# Altium schematic symbol library PocketLab_DMM_EVT0.SchLib: 42 symbols (part 1 of 3)
Pins are listed as number, name and electrical type; pins without a type are passive.

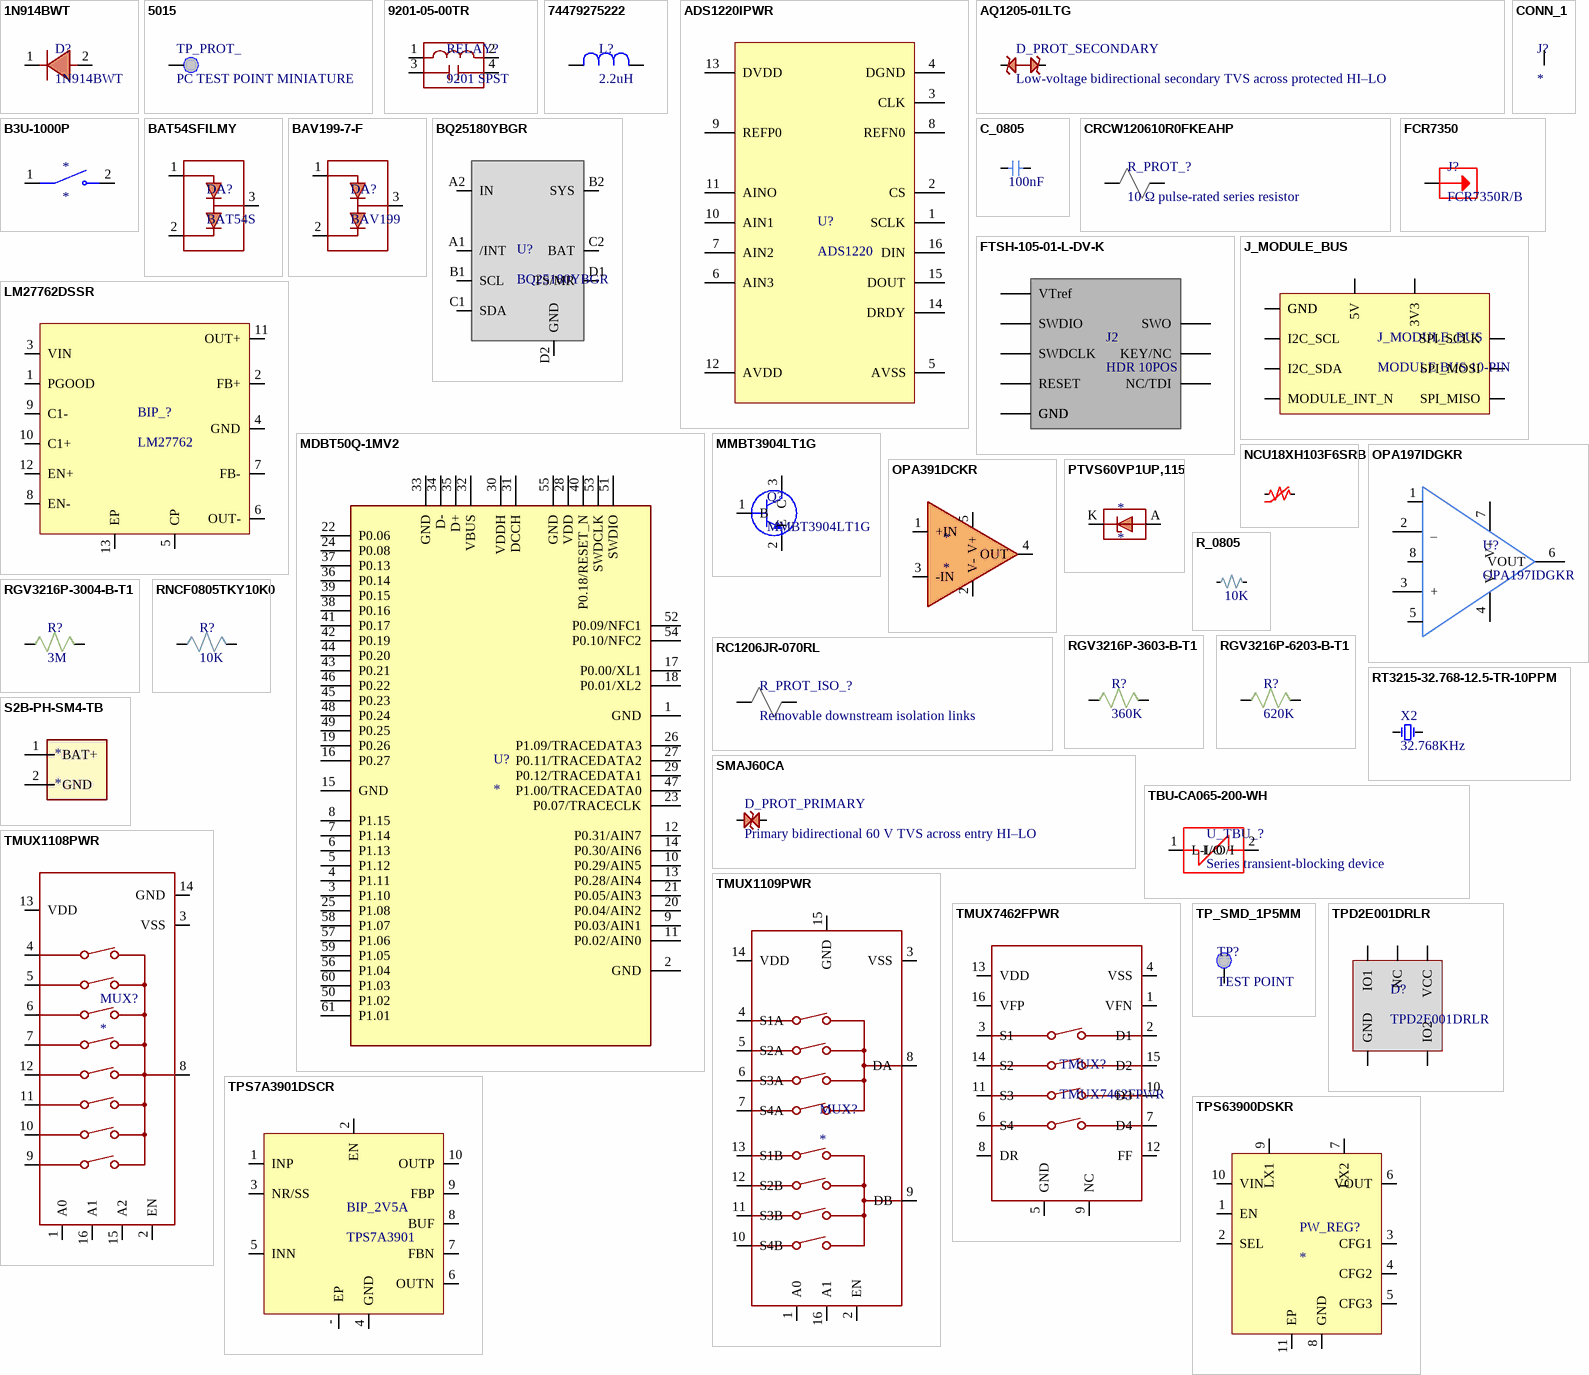
[diagram p0: symbols 1N914BWT to TPS63900DSKR]

## 1N914BWT
designator D?
DIODE STANDARD 75V 200MA SOD523F; Manufacturer: onsemi; Manufacturer Lifecycle Status: ACTIVE; Value: 4pF; Element Configuration: Single; Forward Current: 300mA; Forward Voltage: 720mV; Max Junction Temperature (Tj): 150°C; Max Output current: 150mA; Max Power Dissipation: 200mW; Max Reverse Leakage Current: 5µA; Number of Elements: 1; Recovery Time: 4ns; Reverse Voltage: 100V; Supplier: DigiKey; Supplier Part Number: 1N914BWTCT-ND; Manufacturer Part Number: 1N914BWT; RoHS: Compliant; Category: Rectifier Diodes; Stock: 1541183; Pricing: 1=0.17, 10=0.102, 50=0.0726, 100=0.0629, 500=0.04556 (USD); Average Rectified Current: 200mA; China RoHS: Compliant; Contact Plating: Tin; Country of Origin: Mainland China; Export Control Classification Number (ECCN) Code: EAR99; Height: 700µm; Harmonized Tariff Schedule (HTS) Code: 8541.10.00.70; Introduction Date: 2008-03-18; Lead Free: Lead Free; Lifecycle Status: Production; Max Operating Temperature: 150°C; Max Repetitive Reverse Voltage (Vrrm): 75V; Max Reverse Voltage (DC): 75V; Min Operating Temperature: -55°C; Mounting Technology: Surface Mount; Pins: 2; Number of Terminals: 2; Peak Reverse Current: 5µA; Power Dissipation: 200mW; Radiation Hardening: No; REACH SVHC: Yes; Reverse Recovery Time: 4ns; Reverse Standoff Voltage: 75V; Schedule B: 8541100070, 8541100070|8541100070|8541100070|8541100070|8541100070; Weight: 10mg; ComponentLink1URL: https://datasheet.octopart.com:443/1N914BWT-ON-Semiconductor-datasheet-137236191.pdf?src-supplier=JRH+Electronics; ComponentLink1Description: https://datasheet.octopart.com:443/1N914BWT-ON-Semiconductor-datasheet-137236191.pdf?src-supplier=JRH+Electronics; ComponentLink2URL: https://sigma.octopart.com:443/138897313/technical_drawing/ON-Semiconductor-1N914BWT.pdf?src-supplier=Upverter; ComponentLink2Description: https://sigma.octopart.com:443/138897313/technical_drawing/ON-Semiconductor-1N914BWT.pdf?src-supplier=Upverter; ComponentLink3URL: https://datasheet.octopart.com:443/1N914BWT-ON-Semiconductor-datasheet-8641207.pdf?src-supplier=IHS; ComponentLink3Description: https://datasheet.octopart.com:443/1N914BWT-ON-Semiconductor-datasheet-8641207.pdf?src-supplier=IHS; ComponentLink4URL: https://datasheet.octopart.com:443/1N914BWT-onsemi-datasheet-181265884.pdf?src-supplier=IHS; ComponentLink4Description: https://datasheet.octopart.com:443/1N914BWT-onsemi-datasheet-181265884.pdf?src-supplier=IHS; ComponentLink5URL: https://datasheet.octopart.com:443/1N914BWT-ON-Semiconductor-datasheet-85393215.pdf?src-supplier=onsemi; ComponentLink5Description: https://datasheet.octopart.com:443/1N914BWT-ON-Semiconductor-datasheet-85393215.pdf?src-supplier=onsemi; ComponentLink6URL: https://datasheet.octopart.com:443/1N914BWT-ON-Semiconductor-datasheet-86684494.pdf?src-supplier=onsemi; ComponentLink6Description: https://datasheet.octopart.com:443/1N914BWT-ON-Semiconductor-datasheet-86684494.pdf?src-supplier=onsemi; ComponentLink7URL: https://datasheet.octopart.com:443/1N914BWT-ON-Semiconductor-datasheet-86681974.pdf?src-supplier=element14+APAC; ComponentLink7Description: https://datasheet.octopart.com:443/1N914BWT-ON-Semiconductor-datasheet-86681974.pdf?src-supplier=element14+APAC; ComponentLink8URL: https://datasheet.octopart.com:443/1N914BWT-Fairchild-datasheet-597795.pdf?src-supplier=Future+Electronics; ComponentLink8Description: https://datasheet.octopart.com:443/1N914BWT-Fairchild-datasheet-597795.pdf?src-supplier=Future+Electronics; ComponentLink9URL: https://sigma.octopart.com:443/17343427/technical_drawing/Fairchild-Semiconductor-1N914BWT.pdf?src-supplier=Fairchild+Semiconductor; ComponentLink9Description: https://sigma.octopart.com:443/17343427/technical_drawing/Fairchild-Semiconductor-1N914BWT.pdf?src-supplier=Fairchild+Semiconductor; ComponentLink10URL: https://datasheet.octopart.com:443/1N914BWT-Fairchild-Semiconductor-datasheet-67878665.pdf?src-supplier=Farnell; ComponentLink10Description: https://datasheet.octopart.com:443/1N914BWT-Fairchild-Semiconductor-datasheet-67878665.pdf?src-supplier=Farnell; ComponentLink11URL: https://datasheet.octopart.com:443/1N914BWT-Fairchild-Semiconductor-datasheet-68649996.pdf?src-supplier=Farnell; ComponentLink11Description: https://datasheet.octopart.com:443/1N914BWT-Fairchild-Semiconductor-datasheet-68649996.pdf?src-supplier=Farnell; ComponentLink12URL: https://datasheet.octopart.com:443/1N914BWT-Fairchild-Semiconductor-datasheet-78857206.pdf?src-supplier=Farnell; ComponentLink12Description: https://datasheet.octopart.com:443/1N914BWT-Fairchild-Semiconductor-datasheet-78857206.pdf?src-supplier=Farnell; ComponentLink13URL: https://datasheet.octopart.com:443/1N914BWT-Fairchild-Semiconductor-datasheet-67909706.pdf?src-supplier=Newark; ComponentLink13Description: https://datasheet.octopart.com:443/1N914BWT-Fairchild-Semiconductor-datasheet-67909706.pdf?src-supplier=Newark; ComponentLink14URL: https://datasheet.octopart.com:443/1N914BWT-Fairchild-Semiconductor-datasheet-68364971.pdf?src-supplier=Newark; ComponentLink14Description: https://datasheet.octopart.com:443/1N914BWT-Fairchild-Semiconductor-datasheet-68364971.pdf?src-supplier=Newark; ComponentLink15URL: https://datasheet.octopart.com:443/1N914BWT-Fairchild-Semiconductor-datasheet-71421042.pdf?src-supplier=Newark; ComponentLink15Description: https://datasheet.octopart.com:443/1N914BWT-Fairchild-Semiconductor-datasheet-71421042.pdf?src-supplier=Newark; ComponentLink16URL: http://sigma.octopart.com:80/150599636/rohs_statement/ON-Semiconductor-1N914BWT.pdf?src-supplier=Compliance+Statements; ComponentLink16Description: http://sigma.octopart.com:80/150599636/rohs_statement/ON-Semiconductor-1N914BWT.pdf?src-supplier=Compliance+Statements; ComponentLink17URL: http://sigma.octopart.com:80/17343722/reach_statement/Fairchild-Semiconductor-1N914BWT.pdf?src-supplier=Compliance+Statements; ComponentLink17Description: http://sigma.octopart.com:80/17343722/reach_statement/Fairchild-Semiconductor-1N914BWT.pdf?src-supplier=Compliance+Statements; ComponentLink18URL: http://sigma.octopart.com:80/17343723/materials_sheet/Fairchild-Semiconductor-1N914BWT.pdf?src-supplier=Compliance+Statements; ComponentLink18Description: http://sigma.octopart.com:80/17343723/materials_sheet/Fairchild-Semiconductor-1N914BWT.pdf?src-supplier=Compliance+Statements; ComponentLink19URL: http://sigma.octopart.com:80/33033631/reach_statement/Fairchild-Semiconductor-1N914BWT.pdf?src-supplier=Compliance+Statements; ComponentLink19Description: http://sigma.octopart.com:80/33033631/reach_statement/Fairchild-Semiconductor-1N914BWT.pdf?src-supplier=Compliance+Statements; ComponentLink20URL: http://sigma.octopart.com:80/33033633/materials_sheet/Fairchild-Semiconductor-1N914BWT.pdf?src-supplier=Compliance+Statements; ComponentLink20Description: http://sigma.octopart.com:80/33033633/materials_sheet/Fairchild-Semiconductor-1N914BWT.pdf?src-supplier=Compliance+Statements; ComponentLink21URL: http://sigma.octopart.com:80/reach_statement/ON-Semiconductor-company-79.pdf?src-supplier=Compliance+Statements; ComponentLink21Description: http://sigma.octopart.com:80/reach_statement/ON-Semiconductor-company-79.pdf?src-supplier=Compliance+Statements; ComponentLink22URL: http://sigma.octopart.com:80/rohs_statement/Fairchild-Semiconductor-company-11.pdf?src-supplier=Compliance+Statements; ComponentLink22Description: http://sigma.octopart.com:80/rohs_statement/Fairchild-Semiconductor-company-11.pdf?src-supplier=Compliance+Statements; ComponentLink23URL: http://sigma.octopart.com:80/rohs_statement/Fairchild-Semiconductor-company-10.pdf?src-supplier=Compliance+Statements; ComponentLink23Description: http://sigma.octopart.com:80/rohs_statement/Fairchild-Semiconductor-company-10.pdf?src-supplier=Compliance+Statements; ComponentLink24URL: http://sigma.octopart.com:80/reach_statement/Fairchild-Semiconductor-company-9.pdf?src-supplier=Compliance+Statements; ComponentLink24Description: http://sigma.octopart.com:80/reach_statement/Fairchild-Semiconductor-company-9.pdf?src-supplier=Compliance+Statements; ComponentLink25URL: https://octopart.com:443/opatz8j6/c1?t=AH9zcMxkeAdW6q2Eq6b7IE3o8p7oJyfCCWP2LD7p9dkg8_1XgT_uIYUIfv7lhcHO3Lm2dWJ0vyWcCXTmI-m6i_e3bz1ygKnSbTknupXSFzBNj_HpxZskJCgN2zBylGov1HFklhlqrpHlO6K5AZ62MDKnKfmeey-sKx5zLLXPz3vdpqjCapaf97_w5ymRJ4vykqn37E9iqiVHqZfTnoawsGL7kQ2_tC5XJG82m9dj8CjUa7IyLd46aJZw47PNoUwIy-tktB34mxPYkgoIYMPq_y-2_Zl7oOQxNhckIE8NgxTfVSFSWYFJhemMnrsZ4FmlJAaE9JBv7LsFpjF61P3RKffqM8U7tIBEs0IC&src-supplier=Compliance+Statements; ComponentLink25Description: https://octopart.com:443/opatz8j6/c1?t=AH9zcMxkeAdW6q2Eq6b7IE3o8p7oJyfCCWP2LD7p9dkg8_1XgT_uIYUIfv7lhcHO3Lm2dWJ0vyWcCXTmI-m6i_e3bz1ygKnSbTknupXSFzBNj_HpxZskJCgN2zBylGov1HFklhlqrpHlO6K5AZ62MDKnKfmeey-sKx5zLLXPz3vdpqjCapaf97_w5ymRJ4vykqn37E9iqiVHqZfTnoawsGL7kQ2_tC5XJG82m9dj8CjUa7IyLd46aJZw47PNoUwIy-tktB34mxPYkgoIYMPq_y-2_Zl7oOQxNhckIE8NgxTfVSFSWYFJhemMnrsZ4FmlJAaE9JBv7LsFpjF61P3RKffqM8U7tIBEs0IC&src-supplier=Compliance+Statements; ComponentLink26URL: https://octopart.com:443/opatz8j6/c1?t=xkFbza4jrI2CRbegTQyc3OoFkt0wJLseTZvNZoS9ZK7og4IYeJkRm8Wtlicq30gKrCmXKYAvwhfUWUd8QrgiWtGr-1lPch9YM6_eRKvxcMBeJPMVF6fuXrX8qVzrjdJE_ba4nBK8Av8ejJiUOIqoCK4JwxbrI670KPmrS7lZhK3d4M9ClcgV1EdcA89oUfKfxSXdDQ7ptMPVQyO9dYqcVLlwZjgXP6pJFSDaJyXdYctBiNO3pJoYg6YNiGqR74o654sFLuxF_heBqsxkg6UEULjNDBDBmm8bGtxjuaEt4DFGZZVVzAgQnbURpSvQrJSnNWgco6nydRWV0EfJMGefeNg22mY4HSjyeBXs9g&src-supplier=Compliance+Statements; ComponentLink26Description: https://octopart.com:443/opatz8j6/c1?t=xkFbza4jrI2CRbegTQyc3OoFkt0wJLseTZvNZoS9ZK7og4IYeJkRm8Wtlicq30gKrCmXKYAvwhfUWUd8QrgiWtGr-1lPch9YM6_eRKvxcMBeJPMVF6fuXrX8qVzrjdJE_ba4nBK8Av8ejJiUOIqoCK4JwxbrI670KPmrS7lZhK3d4M9ClcgV1EdcA89oUfKfxSXdDQ7ptMPVQyO9dYqcVLlwZjgXP6pJFSDaJyXdYctBiNO3pJoYg6YNiGqR74o654sFLuxF_heBqsxkg6UEULjNDBDBmm8bGtxjuaEt4DFGZZVVzAgQnbURpSvQrJSnNWgco6nydRWV0EfJMGefeNg22mY4HSjyeBXs9g&src-supplier=Compliance+Statements
footprint 1N914BWT
pins: 1 cathode, 2 anode

## 5015
designator TP_PROT_, comment PC TEST POINT MINIATURE
2.67x1.02mm Miniature Phosphor Bronze Silver Plating SMT PC Test Point; Manufacturer: Keystone; Manufacturer Part Number: 5015; Number of Contacts: 1; Supplier: DigiKey; Supplier Part Number: 36-5015DKR-ND; RoHS: Compliant; Category: Test Points; Stock: 1508551; Pricing: 1=0.49, 10=0.37, 25=0.3316, 100=0.2809, 500=0.23324 (USD); Color: White; Contact Material: Silver; Contact Plating: Silver, Tin; Country of Origin: Mainland China; Depth: 1.01mm; Export Control Classification Number (ECCN) Code: EAR99; Height: 1.65mm; Introduction Date: 1999-06-01; Lead Free: Lead Free; Length: 2.66mm; Lifecycle Status: Production; Material: Bronze, Silver; Mounting Technology: Surface Mount; Number of Ports: 1; Orientation: Straight; Packaging: Cut Tape; REACH SVHC: Yes; Termination: Solder; Thickness: 254µm; ComponentLink1URL: https://datasheet.octopart.com:443/5015-Keystone-datasheet-138899164.pdf?src-supplier=IHS; ComponentLink1Description: https://datasheet.octopart.com:443/5015-Keystone-datasheet-138899164.pdf?src-supplier=IHS; ComponentLink2URL: https://datasheet.octopart.com:443/5015-Keystone-datasheet-15716177.pdf?src-supplier=Farnell; ComponentLink2Description: https://datasheet.octopart.com:443/5015-Keystone-datasheet-15716177.pdf?src-supplier=Farnell; ComponentLink3URL: https://datasheet.octopart.com:443/5015-Keystone-datasheet-23674.pdf?src-supplier=element14+APAC; ComponentLink3Description: https://datasheet.octopart.com:443/5015-Keystone-datasheet-23674.pdf?src-supplier=element14+APAC; ComponentLink4URL: https://datasheet.octopart.com:443/5015-Keystone-datasheet-14433324.pdf?src-supplier=SOS+electronic; ComponentLink4Description: https://datasheet.octopart.com:443/5015-Keystone-datasheet-14433324.pdf?src-supplier=SOS+electronic; ComponentLink5URL: https://datasheet.octopart.com:443/5015-Keystone-datasheet-10928035.pdf?src-supplier=RS+(Formerly+Allied+Electronics); ComponentLink5Description: https://datasheet.octopart.com:443/5015-Keystone-datasheet-10928035.pdf?src-supplier=RS+(Formerly+Allied+Electronics); ComponentLink6URL: https://datasheet.octopart.com:443/5015-Keystone-datasheet-110727223.pdf?src-supplier=RS+(Formerly+Allied+Electronics); ComponentLink6Description: https://datasheet.octopart.com:443/5015-Keystone-datasheet-110727223.pdf?src-supplier=RS+(Formerly+Allied+Electronics); ComponentLink7URL: https://datasheet.octopart.com:443/5015-Keystone-datasheet-43521.pdf?src-supplier=RS+(Formerly+Allied+Electronics); ComponentLink7Description: https://datasheet.octopart.com:443/5015-Keystone-datasheet-43521.pdf?src-supplier=RS+(Formerly+Allied+Electronics); ComponentLink8URL: https://datasheet.octopart.com:443/5015-Keystone-datasheet-9590016.pdf?src-supplier=Future+Electronics; ComponentLink8Description: https://datasheet.octopart.com:443/5015-Keystone-datasheet-9590016.pdf?src-supplier=Future+Electronics; ComponentLink9URL: https://datasheet.octopart.com:443/5015-Keystone-datasheet-110727227.pdf?src-supplier=Future+Electronics; ComponentLink9Description: https://datasheet.octopart.com:443/5015-Keystone-datasheet-110727227.pdf?src-supplier=Future+Electronics; ComponentLink10URL: https://datasheet.octopart.com:443/5015-Keystone-datasheet-549598.pdf?src-supplier=Future+Electronics; ComponentLink10Description: https://datasheet.octopart.com:443/5015-Keystone-datasheet-549598.pdf?src-supplier=Future+Electronics; ComponentLink11URL: https://datasheet.octopart.com:443/5015-Keystone-datasheet-154360695.pdf?src-supplier=Jameco+(USA); ComponentLink11Description: https://datasheet.octopart.com:443/5015-Keystone-datasheet-154360695.pdf?src-supplier=Jameco+(USA); ComponentLink12URL: https://datasheet.octopart.com:443/5015-Keystone-datasheet-10518101.pdf?src-supplier=Jameco+(USA); ComponentLink12Description: https://datasheet.octopart.com:443/5015-Keystone-datasheet-10518101.pdf?src-supplier=Jameco+(USA); ComponentLink13URL: https://datasheet.octopart.com:443/5015-Keystone-datasheet-120100765.pdf?src-supplier=Megastar; ComponentLink13Description: https://datasheet.octopart.com:443/5015-Keystone-datasheet-120100765.pdf?src-supplier=Megastar
pins: 1

## 9201-05-00TR
designator RELAY?, comment 9201 SPST
RELAY REED SPST 500MA 5V; Manufacturer: Coto; Manufacturer Part Number: 9201-05-00TR; Coil Current: 20mA; Coil Resistance: 250Ω; Coil Type: Non-Latching; Operate Time: 400µs; Release Time: 100µs; Switching Voltage: 200V; Supplier: DigiKey; Supplier Part Number: 306-1389-1-ND; RoHS: Compliant; Category: Signal Relays; Stock: 475; Pricing: 1=9.85, 10=8.777, 25=8.3816, 50=8.094, 100=7.8162, 250=7.46328, 500=7.20674 (USD); Case/Package: SMD/SMT; Coil Voltage (DC): 5V; Contact Current Rating: 500mA; Max Operating Temperature: 85°C; Min Operating Temperature: -20°C; Mounting Technology: Surface Mount; Packaging: Tape & Reel (TR); Relay Type: Reed; Switching Current: 500mA; Termination: Gull Wing; Throw Configuration: SPST; ComponentLink1URL: https://datasheet.octopart.com:443/9201-05-00TR-Coto-Technology-datasheet-126537.pdf?src-supplier=Newark; ComponentLink1Description: https://datasheet.octopart.com:443/9201-05-00TR-Coto-Technology-datasheet-126537.pdf?src-supplier=Newark
footprint 9201-05-00TR (RELAY REED SPST 500MA 5V)
pins: 1, 2, 3, 4

## 74479275222
designator L?, comment 2.2uH
FIXED IND 2.2UH 2A 190 MOHM SMD; Manufacturer: Wurth Elektronik; Manufacturer Part Number: 74479275222; Manufacturer Lifecycle Status: ACTIVE; Current Rating: 1A; DC Resistance (DCR): 166mΩ; Value: 2.2µH; Inductance Tolerance: 20%; RMS Current (Irms): 1.3A; Saturation Current: 1.2A; Self Resonant Frequency: 40MHz; ESR: 176mΩ; Shielding: Shielded; Test Frequency: 1MHz; YEOL: 1 = Estimated lifetime > 10 years; Supplier: DigiKey; Supplier Part Number: 732-9708-1-ND; RoHS: Compliant; Category: Fixed Inductors; Stock: 6231; Pricing: 1=1.27, 50=1.056, 100=0.915, 1000=0.832 (USD); Ambient Temperature Range High: 85°C; Ambient Temperature Range Low: -40°C; Case/Package: 0805; Case Code (Imperial): 0805; Case Code (Metric): 2012; Height: 1mm; Height - Seated (Max): 1.4478mm; Length: 2mm; Lifecycle Status: Production; Max Operating Temperature: 125°C; Min Operating Temperature: -40°C; Mounting Technology: Surface Mount; Pins: 2; REACH SVHC: Unknown; Tolerance: 20%; Width: 1.25mm; ComponentLink1URL: https://datasheet.octopart.com:443/74479275222-W%C3%BCrth-Elektronik-datasheet-155263601.pdf?src-supplier=Wurth+Elektronik; ComponentLink1Description: https://datasheet.octopart.com:443/74479275222-W%C3%BCrth-Elektronik-datasheet-155263601.pdf?src-supplier=Wurth+Elektronik; ComponentLink2URL: https://datasheet.octopart.com:443/74479275222-Wurth-Elektronik-datasheet-181536646.pdf?src-supplier=Newark; ComponentLink2Description: https://datasheet.octopart.com:443/74479275222-Wurth-Elektronik-datasheet-181536646.pdf?src-supplier=Newark; ComponentLink3URL: https://datasheet.octopart.com:443/74479275222-W%C3%BCrth-Elektronik-datasheet-62333429.pdf?src-supplier=element14+APAC; ComponentLink3Description: https://datasheet.octopart.com:443/74479275222-W%C3%BCrth-Elektronik-datasheet-62333429.pdf?src-supplier=element14+APAC
footprint WE_PMCI_201210
pins: 1, 2

## ADS1220IPWR
designator U?, comment ADS1220
IC ADC 24BIT 16-TSSOP; Manufacturer: Texas Instruments; Manufacturer Part Number: ADS1220IPWR; Manufacturer Lifecycle Status: ACTIVE; Interface: SPI; Max Power Dissipation: 1.4mW; Max Supply Voltage: 5.5V; Min Supply Voltage: 2.3V; Number of A/D Converters: 1; Number of Analog Inputs: 4; Number of Bits: 24; Operating Supply Voltage: 3.3V; Polarity: Bipolar, Unipolar; Power Dissipation: 2.1mW; Resolution: 3B; Sampling Rate: 2ksps; Supply Type: Analog, Digital, Dual; Supplier: DigiKey; Supplier Part Number: 296-39851-1-ND; RoHS: Compliant; Category: Analog to Digital Converters (ADCs); Stock: 4099; Pricing: 1=9.26, 10=7.201, 25=6.6852, 100=6.1189, 250=6.0022 (USD); Case/Package: TSSOP; Contact Plating: Gold; Height: 1.2mm; Lead Free: Lead Free; Length: 5mm; Lifecycle Status: Production; Max Operating Temperature: 125°C; Min Operating Temperature: -40°C; Mounting Technology: Surface Mount; Number of Channels: 1; Number of Converters: 1; Number of Elements: 1; Number of Inputs: 4; Pins: 16; Radiation Hardening: No; Schedule B: 8542390000; Thickness: 1mm; Width: 4.4mm; ComponentLink1URL: https://sigma.octopart.com:443/189718192/technical_drawing/Texas-Instruments-ADS1220IPWR.pdf?src-supplier=Texas+Instruments; ComponentLink1Description: https://sigma.octopart.com:443/189718192/technical_drawing/Texas-Instruments-ADS1220IPWR.pdf?src-supplier=Texas+Instruments; ComponentLink2URL: https://octopart.com:443/opatz8j6/c1?t=BlS52qY4T5w8A7uK_HjLnxNLo9uk59_RYYMo9dLg0oO2cMi-18kly1ZKdJe2qPDbDx0L3HGY3S0lPPROM-3fqYypc313GSW7Fpej1V_dswjApvxmFTIjwfDPB1ymsghsFF1peKDlQOxzEpi3-yutT465CQ4oB2kBM5WiUtcuO2mNwVfA-IWeTnfaQkyq_eP44orWu8X7V80Vir55GCaJJNnMK-Ri4IeRAVNqOHGPv58lWeY5n0YLEge8tXITw4M_cEEmDQjwStTzdakIywHbSoPuvyHyNGZa9yCPf7we15vfNr4UaaVf2RPbk6oPXb3t4UGaAVG0yF_k74fBuIdALnp98NtoYrGWv25hANVM8CHAoYO8J4TnYaXtD7mx8qsTT-nMoCs&src-supplier=Texas+Instruments; ComponentLink2Description: https://octopart.com:443/opatz8j6/c1?t=BlS52qY4T5w8A7uK_HjLnxNLo9uk59_RYYMo9dLg0oO2cMi-18kly1ZKdJe2qPDbDx0L3HGY3S0lPPROM-3fqYypc313GSW7Fpej1V_dswjApvxmFTIjwfDPB1ymsghsFF1peKDlQOxzEpi3-yutT465CQ4oB2kBM5WiUtcuO2mNwVfA-IWeTnfaQkyq_eP44orWu8X7V80Vir55GCaJJNnMK-Ri4IeRAVNqOHGPv58lWeY5n0YLEge8tXITw4M_cEEmDQjwStTzdakIywHbSoPuvyHyNGZa9yCPf7we15vfNr4UaaVf2RPbk6oPXb3t4UGaAVG0yF_k74fBuIdALnp98NtoYrGWv25hANVM8CHAoYO8J4TnYaXtD7mx8qsTT-nMoCs&src-supplier=Texas+Instruments; ComponentLink3URL: https://sigma.octopart.com:443/116621398/technical_drawing/Texas-Instruments-ADS1220IPWR.pdf?src-supplier=Texas+Instruments; ComponentLink3Description: https://sigma.octopart.com:443/116621398/technical_drawing/Texas-Instruments-ADS1220IPWR.pdf?src-supplier=Texas+Instruments; ComponentLink4URL: https://datasheet.octopart.com:443/ADS1220IPWR-Texas-Instruments-datasheet-37484719.pdf?src-supplier=Texas+Instruments; ComponentLink4Description: https://datasheet.octopart.com:443/ADS1220IPWR-Texas-Instruments-datasheet-37484719.pdf?src-supplier=Texas+Instruments; ComponentLink5URL: https://datasheet.octopart.com:443/ADS1220IPWR-Texas-Instruments-datasheet-16941236.pdf?src-supplier=Texas+Instruments; ComponentLink5Description: https://datasheet.octopart.com:443/ADS1220IPWR-Texas-Instruments-datasheet-16941236.pdf?src-supplier=Texas+Instruments; ComponentLink6URL: https://datasheet.octopart.com:443/ADS1220IPWR-Texas-Instruments-datasheet-15761565.pdf?src-supplier=Texas+Instruments; ComponentLink6Description: https://datasheet.octopart.com:443/ADS1220IPWR-Texas-Instruments-datasheet-15761565.pdf?src-supplier=Texas+Instruments; ComponentLink7URL: https://sigma.octopart.com:443/49249815/technical_drawing/Texas-Instruments-ADS1220IPWR.pdf?src-supplier=Texas+Instruments; ComponentLink7Description: https://sigma.octopart.com:443/49249815/technical_drawing/Texas-Instruments-ADS1220IPWR.pdf?src-supplier=Texas+Instruments; ComponentLink8URL: https://datasheet.octopart.com:443/ADS1220IPWR-Texas-Instruments-datasheet-159675426.pdf?src-supplier=SHENGYU+ELECTRONICS; ComponentLink8Description: https://datasheet.octopart.com:443/ADS1220IPWR-Texas-Instruments-datasheet-159675426.pdf?src-supplier=SHENGYU+ELECTRONICS; ComponentLink9URL: https://datasheet.octopart.com:443/ADS1220IPWR-Texas-Instruments-datasheet-165986363.pdf?src-supplier=LCSC; ComponentLink9Description: https://datasheet.octopart.com:443/ADS1220IPWR-Texas-Instruments-datasheet-165986363.pdf?src-supplier=LCSC; ComponentLink10URL: http://sigma.octopart.com:80/reach_statement/Texas-Instruments-company-64.pdf?src-supplier=Compliance+Statements; ComponentLink10Description: http://sigma.octopart.com:80/reach_statement/Texas-Instruments-company-64.pdf?src-supplier=Compliance+Statements; ComponentLink11URL: http://sigma.octopart.com:80/conflict_mineral_statement/Texas-Instruments-company-63.pdf?src-supplier=Compliance+Statements; ComponentLink11Description: http://sigma.octopart.com:80/conflict_mineral_statement/Texas-Instruments-company-63.pdf?src-supplier=Compliance+Statements
footprint ADS1220IPWR
pins: 1 SCLK, 2 CS, 3 CLK, 4 DGND, 5 AVSS, 6 AIN3, 7 AIN2, 8 REFN0, 9 REFP0, 10 AIN1, 11 AINO, 12 AVDD, 13 DVDD, 14 DRDY, 15 DOUT, 16 DIN

## AQ1205-01LTG
designator D_PROT_SECONDARY, comment Low-voltage bidirectional secondary TVS across protected HI–LO
5V 7A 30kV SOD523 Bi-dir TVS; Manufacturer: Littelfuse; Manufacturer Part Number: AQ1205-01LTG; Number of Channels: 1; Supplier: DigiKey; Supplier Part Number: 18-AQ1205-01LTGCT-ND; Category: TVS Diodes; Stock: 2373; Pricing: 1=0.71, 10=0.439, 50=0.3202, 100=0.2815, 500=0.21336 (USD); Export Control Classification Number (ECCN) Code: EAR99; Harmonized Tariff Schedule (HTS) Code: 8541.10.00.50; Introduction Date: 2023-03-20; Lifecycle Status: Production; ComponentLink1URL: https://datasheet.octopart.com:443/AQ1205-01LTG-Littelfuse-datasheet-184556506.pdf?src-supplier=Farnell; ComponentLink1Description: https://datasheet.octopart.com:443/AQ1205-01LTG-Littelfuse-datasheet-184556506.pdf?src-supplier=Farnell
pins: 1, 2

## B3U-1000P
designator *
Switch Tactile N.O. SPST Round Button Solder Tab 12VDC 200000Cycles 1.5N SMD Emboss T/R; Manufacturer: Omron; Manufacturer Part Number: B3U-1000P; Manufacturer Package Identifier: B3U-1000P(M); Actuator Length: 400µm; Contact Current Rating: 50mA; Contact Resistance: 100mΩ; Electrical Life: 200kcycles; Illumination Type: Illuminated, Non-Illuminated; Max Voltage Rating (DC): 12V; Number of Positions: 1; Operating Force: 1.99N; Ratings: Dust Proof, IP40; Sealable: DUST PROOF; Switch Function: Off-Mom; Switch Travel: 150µm; Supplier: Arrow Electronics; Supplier Part Number: B3U-1000P; RoHS: Compliant; Category: Tactile Switches; Stock: 392000; Pricing: 3500=0.5448, 7000=0.5014 (USD); Ambient Temperature Range High: 70°C; Color: Silver; Contact Material: Silver; Contact Plating: Silver; Current Rating: 50mA; Depth: 2.5mm; Height: 1.2mm; Insulation Resistance: 100MΩ; Lead Free: Lead Free; Length: 3mm; Life (Cycles): 200kcycles; Lifecycle Status: Production; Max Current Rating: 50mA; Max Operating Temperature: 70°C; Mechanical Life: 200kcycles; Min Operating Temperature: -25°C; Mounting Technology: Surface Mount; Pins: 2; Packaging: Tape and Reel; REACH SVHC: Yes; Termination: Solder; Throw Configuration: SPST; Voltage Rating (DC): 12V; Weight: 21.99923mg; Width: 2.5mm; ComponentLink1URL: https://datasheet.octopart.com:443/B3U-1000P-Omron-datasheet-62106914.pdf?src-supplier=IHS; ComponentLink1Description: https://datasheet.octopart.com:443/B3U-1000P-Omron-datasheet-62106914.pdf?src-supplier=IHS; ComponentLink2URL: https://datasheet.octopart.com:443/B3U-1000P-Omron-datasheet-10910421.pdf?src-supplier=RS+(Formerly+Allied+Electronics); ComponentLink2Description: https://datasheet.octopart.com:443/B3U-1000P-Omron-datasheet-10910421.pdf?src-supplier=RS+(Formerly+Allied+Electronics); ComponentLink3URL: https://datasheet.octopart.com:443/B3U-1000P-Omron-datasheet-5458533.pdf?src-supplier=Upverter; ComponentLink3Description: https://datasheet.octopart.com:443/B3U-1000P-Omron-datasheet-5458533.pdf?src-supplier=Upverter; ComponentLink4URL: https://datasheet.octopart.com:443/B3U-1000P-Omron-datasheet-11968313.pdf?src-supplier=SOS+electronic; ComponentLink4Description: https://datasheet.octopart.com:443/B3U-1000P-Omron-datasheet-11968313.pdf?src-supplier=SOS+electronic; ComponentLink5URL: https://datasheet.octopart.com:443/B3U-1000P-Omron-datasheet-110759174.pdf?src-supplier=Newark; ComponentLink5Description: https://datasheet.octopart.com:443/B3U-1000P-Omron-datasheet-110759174.pdf?src-supplier=Newark; ComponentLink6URL: https://datasheet.octopart.com:443/B3U-1000P-Omron-datasheet-506776.pdf?src-supplier=Newark; ComponentLink6Description: https://datasheet.octopart.com:443/B3U-1000P-Omron-datasheet-506776.pdf?src-supplier=Newark; ComponentLink7URL: https://datasheet.octopart.com:443/B3U-1000P-Omron-datasheet-17589256.pdf?src-supplier=TME; ComponentLink7Description: https://datasheet.octopart.com:443/B3U-1000P-Omron-datasheet-17589256.pdf?src-supplier=TME
footprint B3U-1000P
pins: 1, 2

## BAT54SFILMY
designator DA?, comment BAT54S
DIODE ARR SCHOTT 40V 300MA SOT23; Manufacturer: STMicroelectronics; Manufacturer Part Number: BAT54SFILMY; Value: 7pF; Forward Voltage: 900mV; Max Forward Surge Current (Ifsm): 1A; Max Junction Temperature (Tj): 150°C; Number of Elements: 2; Peak Reverse Current: 1µA; Reverse Recovery Time: 5ns; Reverse Standoff Voltage: 30V; Supplier: DigiKey; Supplier Part Number: 497-12132-1-ND; RoHS: Compliant; Category: Schottky Diodes; Stock: 4455; Pricing: 1=0.38, 10=0.233, 50=0.1678, 100=0.1464, 500=0.10854, 3000=0.0807, 9000=0.06882 (USD); Average Rectified Current: 300mA; Case/Package: SOT-23; China RoHS: Compliant; Contact Plating: Tin; Forward Current: 300mA; Height: 1.1mm; Lifecycle Status: Production; Max Operating Temperature: 150°C; Max Output current: 300mA; Max Repetitive Reverse Voltage (Vrrm): 40V; Max Reverse Voltage (DC): 40V; Min Operating Temperature: -40°C; Mounting Technology: Surface Mount; Pins: 3; Number of Terminals: 3; Packaging: Tape and Reel; Peak Non-Repetitive Surge Current: 1A; Ratings: AEC-Q101; REACH SVHC: Yes; Schedule B: 8541100070, 8541100070|8541100070|8541100070|8541100070|8541100070; ComponentLink1URL: https://datasheet.octopart.com:443/BAT54SFILMY-STMicroelectronics-datasheet-10836183.pdf?src-supplier=STMicroelectronics; ComponentLink1Description: https://datasheet.octopart.com:443/BAT54SFILMY-STMicroelectronics-datasheet-10836183.pdf?src-supplier=STMicroelectronics; ComponentLink2URL: https://datasheet.octopart.com:443/BAT54SFILMY-STMicroelectronics-datasheet-62331689.pdf?src-supplier=Newark; ComponentLink2Description: https://datasheet.octopart.com:443/BAT54SFILMY-STMicroelectronics-datasheet-62331689.pdf?src-supplier=Newark; ComponentLink3URL: https://datasheet.octopart.com:443/BAT54SFILMY-STMicroelectronics-datasheet-141402752.pdf?src-supplier=TME; ComponentLink3Description: https://datasheet.octopart.com:443/BAT54SFILMY-STMicroelectronics-datasheet-141402752.pdf?src-supplier=TME; ComponentLink4URL: https://datasheet.octopart.com:443/BAT54SFILMY-STMicroelectronics-datasheet-94103459.pdf?src-supplier=HQonline; ComponentLink4Description: https://datasheet.octopart.com:443/BAT54SFILMY-STMicroelectronics-datasheet-94103459.pdf?src-supplier=HQonline
footprint BAT54S-Y
pins: 1, 2, 3

## BAV199-7-F
designator DA?, comment BAV199
DIODE ARRAY GP 85V 140MA SOT23-3; Manufacturer: Diodes Inc.; Manufacturer Part Number: BAV199-7-F; Value: 2pF; Current Rating: 160mA; Forward Current: 150mA; Forward Voltage: 900mV; Max Forward Surge Current (Ifsm): 4A; Max Junction Temperature (Tj): 150°C; Max Power Dissipation: 250mW; Number of Elements: 2; Peak Reverse Current: 5nA; Recovery Time: 3µs; Supplier: DigiKey; Supplier Part Number: BAV199-FDICT-ND; RoHS: Compliant; Category: Rectifier Diodes; Stock: 377057; Pricing: 1=0.28, 10=0.171, 25=0.1412, 50=0.1222, 100=0.1063, 3000=0.05703, 9000=0.04809 (USD); Average Rectified Current: 140mA; Case/Package: SOT-23; China RoHS: Compliant; Contact Plating: Tin; Height: 1.1mm; Lead Free: Lead Free; Length: 3.05mm; Lifecycle Status: Production; Max Operating Temperature: 150°C; Max Output current: 160mA; Max Repetitive Reverse Voltage (Vrrm): 85V; Max Reverse Voltage (DC): 85V; Max Surge Current: 4A; Min Operating Temperature: -65°C; Mounting Technology: Surface Mount; Pins: 3; Number of Terminals: 3; Packaging: Tape and Reel; Peak Non-Repetitive Surge Current: 4A; Power Dissipation: 250mW; Power Rating: 250mW; Radiation Hardening: No; REACH SVHC: Yes; Reverse Recovery Time: 3µs; Reverse Standoff Voltage: 85V; Reverse Voltage: 85V; Reverse Voltage (DC): 85V; Schedule B: 8541100070, 8541100070|8541100070|8541100070|8541100070|8541100070; Voltage Rating (DC): 85V; Weight: 7.994566mg; Width: 1.4mm; ComponentLink1URL: https://datasheet.octopart.com:443/BAV199-7-F-Diodes-Inc.-datasheet-180551509.pdf?src-supplier=IHS; ComponentLink1Description: https://datasheet.octopart.com:443/BAV199-7-F-Diodes-Inc.-datasheet-180551509.pdf?src-supplier=IHS; ComponentLink2URL: https://datasheet.octopart.com:443/BAV199-7-F-Diodes-Inc.-datasheet-134530446.pdf?src-supplier=element14+APAC; ComponentLink2Description: https://datasheet.octopart.com:443/BAV199-7-F-Diodes-Inc.-datasheet-134530446.pdf?src-supplier=element14+APAC; ComponentLink3URL: https://sigma.octopart.com:443/138706058/technical_drawing/Diodes-Inc.-BAV199-7-F.pdf?src-supplier=Diodes+Inc+SCT; ComponentLink3Description: https://sigma.octopart.com:443/138706058/technical_drawing/Diodes-Inc.-BAV199-7-F.pdf?src-supplier=Diodes+Inc+SCT; ComponentLink4URL: https://datasheet.octopart.com/BAV199-7-F-Diodes-Inc.-datasheet-8325478.pdf; ComponentLink4Description: https://datasheet.octopart.com/BAV199-7-F-Diodes-Inc.-datasheet-8325478.pdf; ComponentLink5URL: https://datasheet.octopart.com:443/BAV199-7-F-Diodes-Inc.-datasheet-11746008.pdf?src-supplier=RS+(Formerly+Allied+Electronics); ComponentLink5Description: https://datasheet.octopart.com:443/BAV199-7-F-Diodes-Inc.-datasheet-11746008.pdf?src-supplier=RS+(Formerly+Allied+Electronics); ComponentLink6URL: https://datasheet.octopart.com:443/BAV199-7-F-Diodes-Inc.-datasheet-59782.pdf?src-supplier=Mouser; ComponentLink6Description: https://datasheet.octopart.com:443/BAV199-7-F-Diodes-Inc.-datasheet-59782.pdf?src-supplier=Mouser; ComponentLink7URL: https://datasheet.octopart.com:443/BAV199-7-F-Diodes-Inc.-datasheet-134530231.pdf?src-supplier=Future+Electronics; ComponentLink7Description: https://datasheet.octopart.com:443/BAV199-7-F-Diodes-Inc.-datasheet-134530231.pdf?src-supplier=Future+Electronics; ComponentLink8URL: https://datasheet.octopart.com:443/BAV199-7-F-Diodes-Inc.-datasheet-14052244.pdf?src-supplier=iiiC; ComponentLink8Description: https://datasheet.octopart.com:443/BAV199-7-F-Diodes-Inc.-datasheet-14052244.pdf?src-supplier=iiiC; ComponentLink9URL: https://datasheet.octopart.com:443/BAV199-7-F-Diodes-Inc.-datasheet-7621093.pdf?src-supplier=Jameco+(USA); ComponentLink9Description: https://datasheet.octopart.com:443/BAV199-7-F-Diodes-Inc.-datasheet-7621093.pdf?src-supplier=Jameco+(USA); ComponentLink10URL: http://sigma.octopart.com:80/15616899/materials_sheet/Diodes-Inc.-BAV199-7-F.pdf?src-supplier=Compliance+Statements; ComponentLink10Description: http://sigma.octopart.com:80/15616899/materials_sheet/Diodes-Inc.-BAV199-7-F.pdf?src-supplier=Compliance+Statements
footprint BAV199
pins: 1, 2, 3

## BQ25180YBGR
designator U?
5.5V /Polymer 1 1A DSBGA-8(1.1x1.6) Battery Management ICs ROHS; Manufacturer: Texas Instruments; Manufacturer Lifecycle Status: ACTIVE; Supplier: DigiKey; Supplier Part Number: 296-BQ25180YBGRCT-ND; Manufacturer Part Number: BQ25180YBGR; RoHS: Compliant; Category: Battery Management; Stock: 1782; Pricing: 1=3.01, 10=2.253, 25=2.0632, 100=1.854, 250=1.75436, 500=1.72278 (USD); Height: 500µm; Length: 1.2mm; Lifecycle Status: Production; Pins: 8; Thickness: 254µm; Width: 800µm; ComponentLink1URL: https://sigma.octopart.com:443/155720082/technical_drawing/Texas-Instruments-BQ25180YBGR.pdf?src-supplier=Texas+Instruments; ComponentLink1Description: https://sigma.octopart.com:443/155720082/technical_drawing/Texas-Instruments-BQ25180YBGR.pdf?src-supplier=Texas+Instruments; ComponentLink2URL: https://octopart.com:443/opatz8j6/c1?t=FgRCWYcMJHsZPNpfPzz_WR8vIqjwGMfRa0SdsFniFhPrh3vtdb6GhY6GHejVJgTUlbG4lFRXPlj5NxyYPwhbiYG4p17xkGQBD2p7YHYOAcHS2yUZr_WlZrBFbhb-UonEzVnaB5Ghr5vXkXqoEGqeoR7xOrtJrfoIGfJgWSYXlAKIjkMxwBT0EYjR8qqClumHTeDOTKrCcHE7gK9esH017LNumf_XquhCrPrOa7UbX9POSFM-OWMENnwvHC5BcqHpHp9BI5ef5ZRVnJ8IHWDtm02aX9O4Snlux5T14TkZJlWxTf4x7K0DU-zLtI6wQdNVHB0h9aazHM3I_eYPwzS32m5K0TB4PgRJn0dCtC1nh5xbwKs842dX9HlMeUuaaw4PMgLO2TU&src-supplier=Texas+Instruments; ComponentLink2Description: https://octopart.com:443/opatz8j6/c1?t=FgRCWYcMJHsZPNpfPzz_WR8vIqjwGMfRa0SdsFniFhPrh3vtdb6GhY6GHejVJgTUlbG4lFRXPlj5NxyYPwhbiYG4p17xkGQBD2p7YHYOAcHS2yUZr_WlZrBFbhb-UonEzVnaB5Ghr5vXkXqoEGqeoR7xOrtJrfoIGfJgWSYXlAKIjkMxwBT0EYjR8qqClumHTeDOTKrCcHE7gK9esH017LNumf_XquhCrPrOa7UbX9POSFM-OWMENnwvHC5BcqHpHp9BI5ef5ZRVnJ8IHWDtm02aX9O4Snlux5T14TkZJlWxTf4x7K0DU-zLtI6wQdNVHB0h9aazHM3I_eYPwzS32m5K0TB4PgRJn0dCtC1nh5xbwKs842dX9HlMeUuaaw4PMgLO2TU&src-supplier=Texas+Instruments; ComponentLink3URL: https://datasheet.octopart.com:443/BQ25180YBGR-Texas-Instruments-datasheet-165811111.pdf?src-supplier=Augswan; ComponentLink3Description: https://datasheet.octopart.com:443/BQ25180YBGR-Texas-Instruments-datasheet-165811111.pdf?src-supplier=Augswan; ComponentLink4URL: https://datasheet.octopart.com:443/BQ25180YBGR-Texas-Instruments-datasheet-169738557.pdf?src-supplier=LCSC; ComponentLink4Description: https://datasheet.octopart.com:443/BQ25180YBGR-Texas-Instruments-datasheet-169738557.pdf?src-supplier=LCSC; ComponentLink5URL: http://sigma.octopart.com:80/reach_statement/Texas-Instruments-company-64.pdf?src-supplier=Compliance+Statements; ComponentLink5Description: http://sigma.octopart.com:80/reach_statement/Texas-Instruments-company-64.pdf?src-supplier=Compliance+Statements; ComponentLink6URL: http://sigma.octopart.com:80/conflict_mineral_statement/Texas-Instruments-company-63.pdf?src-supplier=Compliance+Statements; ComponentLink6Description: http://sigma.octopart.com:80/conflict_mineral_statement/Texas-Instruments-company-63.pdf?src-supplier=Compliance+Statements
footprint BQ25180
pins: A1 /INT, A2 IN, B1 SCL, B2 SYS, C1 SDA, C2 BAT, D1 TS/MR, D2 GND

## C_0805
designator C?, comment 100nF
footprint C0805
pins: 1, 2

## CONN_1
designator J?
one-pin connector
pins: 1

## CRCW120610R0FKEAHP
designator R_PROT_?, comment 10 Ω pulse-rated series resistor
Res Thick Film 1206 10 Ohm 1% 0.75W ±100ppm/°C Molded SMD SMD Paper T/R; Manufacturer: Vishay; Manufacturer Part Number: CRCW120610R0FKEAHP; Max Power Dissipation: 500mW; Power Rating: 750mW; Value: 10Ω; Voltage Rating: 200V; Supplier: DigiKey; Supplier Part Number: 541-10.0UCT-ND; RoHS: Compliant; Category: Chip SMD Resistors; Stock: 314959; Pricing: 1=0.22, 10=0.115, 25=0.0912, 50=0.0776, 100=0.0672, 250=0.05656, 500=0.05046, 1000=0.04563 (USD); Case/Package: 1206; Case Code (Imperial): 1206; Case Code (Metric): 3216; China RoHS: Non-Compliant; Composition: Thick Film; Contact Plating: Tin; Country of Origin: Israel, Mainland China; Depth: 1.6mm; Export Control Classification Number (ECCN) Code: EAR99; Features: Automotive AEC-Q200; Height: 500µm; Harmonized Tariff Schedule (HTS) Code: 8533.21.00.30; Introduction Date: 2008-07-29; Lead Free: Lead Free; Length: 3.1mm; Lifecycle Status: Production; Max Operating Temperature: 155°C; Military Standard: Not; Min Operating Temperature: -55°C; Mounting Technology: Surface Mount; Pins: 2; Number of Terminals: 2; Number of Terminations: 2; Packaging: Cut Tape; Radiation Hardening: No; Ratings: AEC-Q200; REACH SVHC: Yes; Schedule B: 8533210045, 8533210045|8533210045|8533210045|8533210045|8533210045|8533210045|8533210045|8533210045|8533210045|8533210045|8533210045|8533210045|8533210045|8533210045|8533210045|8533210045|8533210045|8533210045|8533210045|8533210045|8533210045|8533210045|8533210045|85; Temperature Coefficient: 100ppm/°C; Termination: SMD/SMT; Tolerance: 1%; Voltage Rating (DC): 200V; Weight: 10.007382mg; Width: 1.6mm; Working Voltage: 200V; ComponentLink1URL: https://datasheet.octopart.com/CRCW120610R0FKEAHP-Vishay-datasheet-83567917.pdf; ComponentLink1Description: https://datasheet.octopart.com/CRCW120610R0FKEAHP-Vishay-datasheet-83567917.pdf; ComponentLink2URL: https://datasheet.octopart.com:443/CRCW120610R0FKEAHP-Vishay-datasheet-87136057.pdf?src-supplier=element14+APAC; ComponentLink2Description: https://datasheet.octopart.com:443/CRCW120610R0FKEAHP-Vishay-datasheet-87136057.pdf?src-supplier=element14+APAC; ComponentLink3URL: https://datasheet.octopart.com:443/CRCW120610R0FKEAHP-Vishay-datasheet-62317937.pdf?src-supplier=element14+APAC; ComponentLink3Description: https://datasheet.octopart.com:443/CRCW120610R0FKEAHP-Vishay-datasheet-62317937.pdf?src-supplier=element14+APAC; ComponentLink4URL: https://datasheet.octopart.com:443/CRCW120610R0FKEAHP-Vishay-datasheet-66581887.pdf?src-supplier=Newark; ComponentLink4Description: https://datasheet.octopart.com:443/CRCW120610R0FKEAHP-Vishay-datasheet-66581887.pdf?src-supplier=Newark; ComponentLink5URL: https://datasheet.octopart.com:443/CRCW120610R0FKEAHP-Vishay-datasheet-37143532.pdf?src-supplier=Newark; ComponentLink5Description: https://datasheet.octopart.com:443/CRCW120610R0FKEAHP-Vishay-datasheet-37143532.pdf?src-supplier=Newark; ComponentLink6URL: https://datasheet.octopart.com:443/CRCW120610R0FKEAHP-Vishay-datasheet-13148866.pdf?src-supplier=Newark; ComponentLink6Description: https://datasheet.octopart.com:443/CRCW120610R0FKEAHP-Vishay-datasheet-13148866.pdf?src-supplier=Newark; ComponentLink7URL: https://datasheet.octopart.com:443/CRCW120610R0FKEAHP-Vishay-datasheet-13131392.pdf?src-supplier=Newark; ComponentLink7Description: https://datasheet.octopart.com:443/CRCW120610R0FKEAHP-Vishay-datasheet-13131392.pdf?src-supplier=Newark; ComponentLink8URL: https://datasheet.octopart.com:443/CRCW120610R0FKEAHP-Vishay-datasheet-12593106.pdf?src-supplier=Newark; ComponentLink8Description: https://datasheet.octopart.com:443/CRCW120610R0FKEAHP-Vishay-datasheet-12593106.pdf?src-supplier=Newark; ComponentLink9URL: https://datasheet.octopart.com:443/CRCW120610R0FKEAHP-Vishay-datasheet-12544674.pdf?src-supplier=Newark; ComponentLink9Description: https://datasheet.octopart.com:443/CRCW120610R0FKEAHP-Vishay-datasheet-12544674.pdf?src-supplier=Newark; ComponentLink10URL: https://datasheet.octopart.com:443/CRCW120610R0FKEAHP-Vishay-datasheet-12531795.pdf?src-supplier=Newark; ComponentLink10Description: https://datasheet.octopart.com:443/CRCW120610R0FKEAHP-Vishay-datasheet-12531795.pdf?src-supplier=Newark; ComponentLink11URL: https://datasheet.octopart.com:443/CRCW120610R0FKEAHP-Vishay-datasheet-12518686.pdf?src-supplier=Newark; ComponentLink11Description: https://datasheet.octopart.com:443/CRCW120610R0FKEAHP-Vishay-datasheet-12518686.pdf?src-supplier=Newark; ComponentLink12URL: https://datasheet.octopart.com:443/CRCW120610R0FKEAHP-Vishay-datasheet-12509906.pdf?src-supplier=Newark; ComponentLink12Description: https://datasheet.octopart.com:443/CRCW120610R0FKEAHP-Vishay-datasheet-12509906.pdf?src-supplier=Newark; ComponentLink13URL: https://datasheet.octopart.com:443/CRCW120610R0FKEAHP-Vishay-datasheet-10669844.pdf?src-supplier=Newark; ComponentLink13Description: https://datasheet.octopart.com:443/CRCW120610R0FKEAHP-Vishay-datasheet-10669844.pdf?src-supplier=Newark; ComponentLink14URL: https://datasheet.octopart.com:443/CRCW120610R0FKEAHP-Vishay-datasheet-8703221.pdf?src-supplier=Newark; ComponentLink14Description: https://datasheet.octopart.com:443/CRCW120610R0FKEAHP-Vishay-datasheet-8703221.pdf?src-supplier=Newark; ComponentLink15URL: https://datasheet.octopart.com:443/CRCW120610R0FKEAHP-Vishay-datasheet-15501475.pdf?src-supplier=Farnell; ComponentLink15Description: https://datasheet.octopart.com:443/CRCW120610R0FKEAHP-Vishay-datasheet-15501475.pdf?src-supplier=Farnell; ComponentLink16URL: https://datasheet.octopart.com:443/CRCW120610R0FKEAHP-Vishay-datasheet-8359436.pdf?src-supplier=element14; ComponentLink16Description: https://datasheet.octopart.com:443/CRCW120610R0FKEAHP-Vishay-datasheet-8359436.pdf?src-supplier=element14; ComponentLink17URL: https://datasheet.octopart.com:443/CRCW120610R0FKEAHP-Vishay-datasheet-62316122.pdf?src-supplier=Future+Electronics; ComponentLink17Description: https://datasheet.octopart.com:443/CRCW120610R0FKEAHP-Vishay-datasheet-62316122.pdf?src-supplier=Future+Electronics; ComponentLink18URL: https://datasheet.octopart.com:443/CRCW120610R0FKEAHP-Vishay-Dale-datasheet-47688881.pdf?src-supplier=RS+(Formerly+Allied+Electronics); ComponentLink18Description: https://datasheet.octopart.com:443/CRCW120610R0FKEAHP-Vishay-Dale-datasheet-47688881.pdf?src-supplier=RS+(Formerly+Allied+Electronics); ComponentLink19URL: http://sigma.octopart.com:80/rohs_statement/Vishay-company-15.pdf?src-supplier=Compliance+Statements; ComponentLink19Description: http://sigma.octopart.com:80/rohs_statement/Vishay-company-15.pdf?src-supplier=Compliance+Statements
pins: 1, 2

## FCR7350
designator J?, comment FCR7350R/B
4 mm shrouded banana socket, PCB mount; Manufacturer: Cliff; Current Rating: 24A; Gender: Receptacle; Voltage Rating: 1kV; Supplier: DigiKey; Supplier Part Number: 4654-FCR7350R-ND; Manufacturer Part Number: FCR7350R; RoHS: Compliant; Category: Connectors; Stock: 10020; Pricing: 1=7.66, 10=6.509, 25=6.1016, 50=5.8102, 100=5.5327, 300=5.12017, 500=4.93902, 1000=4.70352 (USD); Color: Red; Connector Type: Socket; Contact Material: Gold; Contact Plating: Gold; Height: 10.922mm; Insulation Material: PVC; Lifecycle Status: Production; Mounting Technology: Through Hole; REACH SVHC: Yes; Termination: Through Hole; Voltage Rating (DC): 1kV; Weight: 4.535924g; Width: 11.938mm; ComponentLink1URL: https://datasheet.octopart.com:443/FCR7350R-Cliff-datasheet-67476090.pdf?src-supplier=IHS; ComponentLink1Description: https://datasheet.octopart.com:443/FCR7350R-Cliff-datasheet-67476090.pdf?src-supplier=IHS; ComponentLink2URL: https://datasheet.octopart.com:443/FCR7350R-Cliff-datasheet-10025950.pdf?src-supplier=element14+APAC; ComponentLink2Description: https://datasheet.octopart.com:443/FCR7350R-Cliff-datasheet-10025950.pdf?src-supplier=element14+APAC; ComponentLink3URL: https://datasheet.octopart.com:443/FCR7350R-Cliff-datasheet-188862624.pdf?src-supplier=TME; ComponentLink3Description: https://datasheet.octopart.com:443/FCR7350R-Cliff-datasheet-188862624.pdf?src-supplier=TME; ComponentLink4URL: https://datasheet.octopart.com:443/FCR7350R-Cliff-datasheet-10027538.pdf?src-supplier=Farnell; ComponentLink4Description: https://datasheet.octopart.com:443/FCR7350R-Cliff-datasheet-10027538.pdf?src-supplier=Farnell
footprint FCR7350_S16-PC (Banana Jack Connector Standard Banana Solder)
pins: 1 IN